# Altium footprint library MC_Spacer_M3x12x5.PcbLib: 1 footprints
Each footprint in its own frame and in the unit in brackets; x right, y up, seen from the top. Pads: shape width x height; smd on the part's side, far side on the other; paste and mask are expansions set on the pad; w line width, h text height; cw(c..) or ccw(c..) is an arc to the next point about the centre after c.
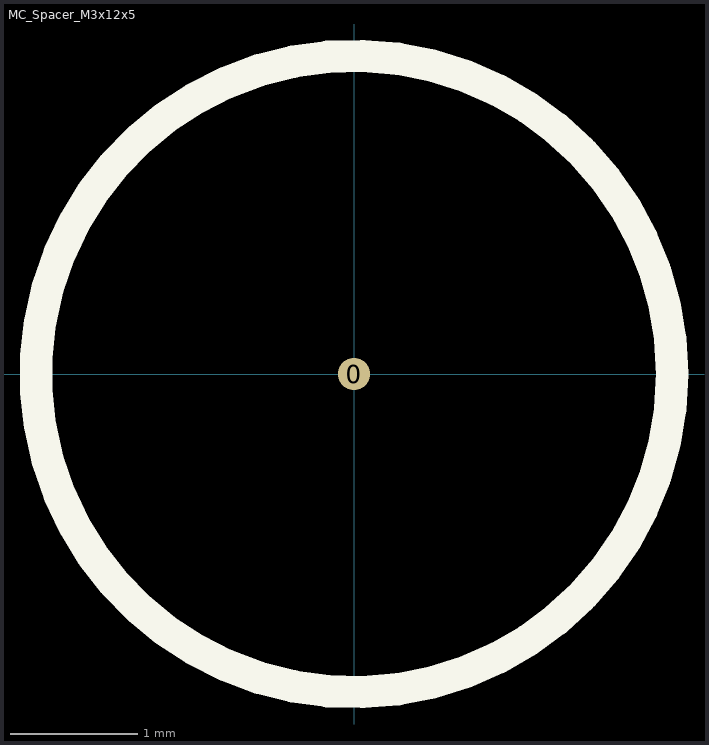
[diagram p0: the footprint, top view; thin cyan lines are the x and y axes]

## MC_Spacer_M3x12x5 [mil] "Metal spacer M3x12x5"
pads (1):
  round 10 all layers, no hole: 0(0,0)
Top Overlay:
  circle w10: c0,0 r98.43
3D body: height -62.99, standoff -535.43, extent -98.42,-113.64 98.43,113.66